# EAGLE library part PS-SCHROFF-PSX1XX-SINGLE (library 1A-meinLib)
Einschubnetzteil, linear, einfach, Typ: PSK (6TE), PSM (10TE), PSG (14TE) 1xx, Schroff
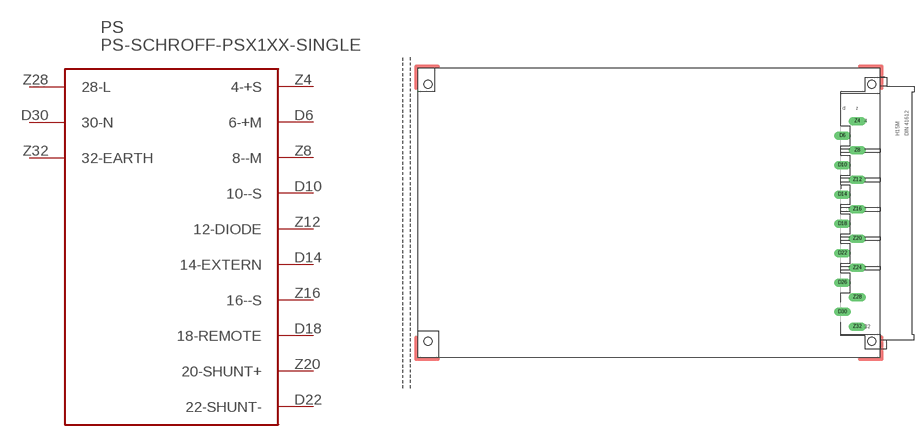
[diagram p84: symbol with the pads of H15ML; footprint H15ML]

Designator prefix PS

## PS-SCHROFF-PSX1XX-SINGLE  [H15ML]
D6  6-+M
D10  10--S
D14  14-EXTERN
D18  18-REMOTE
D22  22-SHUNT-
D30  30-N  in
Z4  4-+S
Z8  8--M
Z12  12-DIODE
Z16  16--S
Z20  20-SHUNT+
Z28  28-L  in
Z32  32-EARTH  in

## Footprint H15ML (pad centres in mm)
CONNECTOR male, 15 pins, type H, rows DZ
drill 1.6 pad 3 long: D6 -10.16,26.67; D10 -10.16,16.51; D14 -10.16,6.35; D18 -10.16,-3.81; D22 -10.16,-13.97; D26 -10.16,-24.13; D30 -10.16,-34.29; Z4 -5.08,31.75; Z8 -5.08,21.59; Z12 -5.08,11.43; Z16 -5.08,1.27; Z20 -5.08,-8.89; Z24 -5.08,-19.05; Z28 -5.08,-29.21; Z32 -5.08,-39.37
hole 2.794 at 0,-44.45
hole 2.794 at 0,44.45
hole 2.794 at 0,44.45
hole 2.794 at 0,-44.45
hole 2.794 at -153.67,-44.45
hole 2.794 at -153.67,44.45
hole 2.8 at 0,44.45
hole 2.8 at 0,-44.45